# Altium schematic symbol library 55_-2LED11.Schlib: 1 symbol
Pins are listed as number, name and electrical type; pins without a type are passive.

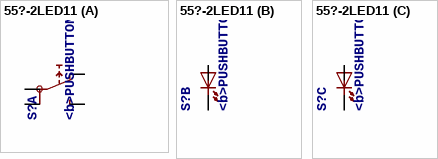
[diagram p0: symbol 55?-2LED11]

## 55?-2LED11
designator S?, comment <b>PUSHBUTTON SERIES 5500 SWITCHES</b> 2 LED<p> / Source: www.e-switch.com .. 5500.pdf
footprint 5511-2LED
part A pins: 1A, 1B, NC, NO
part B pins: +Y A, -Y K
part C pins: +R A, -R K